# Altium integrated library WE-HCC_rev15a.intlib: 47 symbols
Pins are listed as number, name and electrical type; pins without a type are passive.

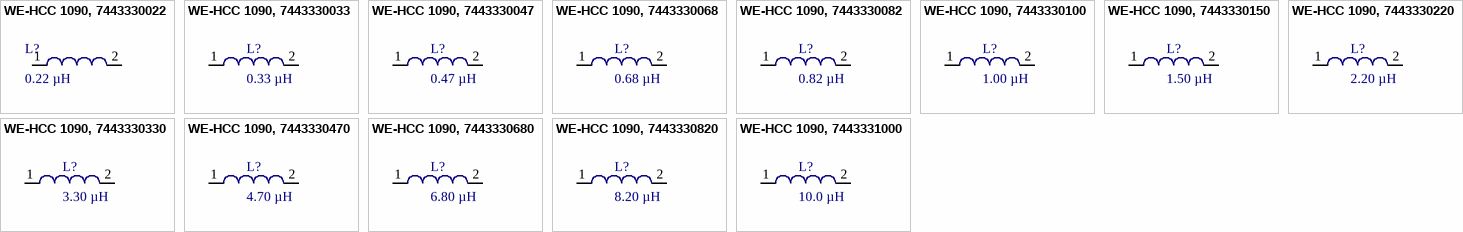
[diagram p0: symbols WE-HCC 1090, 7443330022 to WE-HCC 1090, 7443331000]

## WE-HCC 1090, 7443330022
designator L?, comment 0.22 µH
SMD High Current Cube Inductor WE-HCC, L=0.22 µH; partNo: 7443330022; Manufacturer: Würth Elektronik eiSos GmbH; Inductance: 0.22 µH; ComponentLink1Description: Manufacturer; ComponentLink1URL: http://www.we-online.de; Created by: Christin Zierenner; Created Date: August 2010; ComponentLink2Description: Datasheet; ComponentLink2URL: http://katalog.we-online.de/kataloge/eisos/media/pdf/7443330022.pdf
footprint WE-HCC 1090 (Inductor, 2-Leads, Body 10,9x10,0mm)
pins: 1, 2

## WE-HCC 1090, 7443330033
designator L?, comment 0.33 µH
SMD High Current Cube Inductor WE-HCC, L=0.33 µH; partNo: 7443330033; Manufacturer: Würth Elektronik eiSos GmbH; Inductance: 0.33 µH; ComponentLink1Description: Manufacturer; ComponentLink1URL: http://www.we-online.de; Created by: Christin Zierenner; Created Date: August 2010; ComponentLink2Description: Datasheet; ComponentLink2URL: http://katalog.we-online.de/kataloge/eisos/media/pdf/7443330033.pdf
footprint WE-HCC 1090 (Inductor, 2-Leads, Body 10,9x10,0mm)
pins: 1, 2

## WE-HCC 1090, 7443330047
designator L?, comment 0.47 µH
SMD High Current Cube Inductor WE-HCC, L=0.47 µH; partNo: 7443330047; Manufacturer: Würth Elektronik eiSos GmbH; Inductance: 0.47 µH; ComponentLink1Description: Manufacturer; ComponentLink1URL: http://www.we-online.de; Created by: Christin Zierenner; Created Date: August 2010; ComponentLink2Description: Datasheet; ComponentLink2URL: http://katalog.we-online.de/kataloge/eisos/media/pdf/7443330047.pdf
footprint WE-HCC 1090 (Inductor, 2-Leads, Body 10,9x10,0mm)
pins: 1, 2

## WE-HCC 1090, 7443330068
designator L?, comment 0.68 µH
SMD High Current Cube Inductor WE-HCC, L=0.68 µH; partNo: 7443330068; Manufacturer: Würth Elektronik eiSos GmbH; Inductance: 0.68 µH; ComponentLink1Description: Manufacturer; ComponentLink1URL: http://www.we-online.de; Created by: Christin Zierenner; Created Date: August 2010; ComponentLink2Description: Datasheet; ComponentLink2URL: http://katalog.we-online.de/kataloge/eisos/media/pdf/7443330068.pdf
footprint WE-HCC 1090 (Inductor, 2-Leads, Body 10,9x10,0mm)
pins: 1, 2

## WE-HCC 1090, 7443330082
designator L?, comment 0.82 µH
SMD High Current Cube Inductor WE-HCC, L=0.82 µH; partNo: 7443330082; Manufacturer: Würth Elektronik eiSos GmbH; Inductance: 0.82 µH; ComponentLink1Description: Manufacturer; ComponentLink1URL: http://www.we-online.de; Created by: Christin Zierenner; Created Date: August 2010; ComponentLink2Description: Datasheet; ComponentLink2URL: http://katalog.we-online.de/kataloge/eisos/media/pdf/7443330082.pdf
footprint WE-HCC 1090 (Inductor, 2-Leads, Body 10,9x10,0mm)
pins: 1, 2

## WE-HCC 1090, 7443330100
designator L?, comment 1.00 µH
SMD High Current Cube Inductor WE-HCC, L=1.00 µH; partNo: 7443330100; Manufacturer: Würth Elektronik eiSos GmbH; Inductance: 1.00 µH; ComponentLink1Description: Manufacturer; ComponentLink1URL: http://www.we-online.de; Created by: Christin Zierenner; Created Date: August 2010; ComponentLink2Description: Datasheet; ComponentLink2URL: http://katalog.we-online.de/kataloge/eisos/media/pdf/7443330100.pdf
footprint WE-HCC 1090 (Inductor, 2-Leads, Body 10,9x10,0mm)
pins: 1, 2

## WE-HCC 1090, 7443330150
designator L?, comment 1.50 µH
SMD High Current Cube Inductor WE-HCC, L=1.50 µH; partNo: 7443330150; Manufacturer: Würth Elektronik eiSos GmbH; Inductance: 1.50 µH; ComponentLink1Description: Manufacturer; ComponentLink1URL: http://www.we-online.de; Created by: Christin Zierenner; Created Date: August 2010; ComponentLink2Description: Datasheet; ComponentLink2URL: http://katalog.we-online.de/kataloge/eisos/media/pdf/7443330150.pdf
footprint WE-HCC 1090 (Inductor, 2-Leads, Body 10,9x10,0mm)
pins: 1, 2

## WE-HCC 1090, 7443330220
designator L?, comment 2.20 µH
SMD High Current Cube Inductor WE-HCC, L=2.20 µH; partNo: 7443330220; Manufacturer: Würth Elektronik eiSos GmbH; Inductance: 2.20 µH; ComponentLink1Description: Manufacturer; ComponentLink1URL: http://www.we-online.de; Created by: Christin Zierenner; Created Date: August 2010; ComponentLink2Description: Datasheet; ComponentLink2URL: http://katalog.we-online.de/kataloge/eisos/media/pdf/7443330220.pdf
footprint WE-HCC 1090 (Inductor, 2-Leads, Body 10,9x10,0mm)
pins: 1, 2

## WE-HCC 1090, 7443330330
designator L?, comment 3.30 µH
SMD High Current Cube Inductor WE-HCC, L=3.30 µH; partNo: 7443330330; Manufacturer: Würth Elektronik eiSos GmbH; Inductance: 3.30 µH; ComponentLink1Description: Manufacturer; ComponentLink1URL: http://www.we-online.de; Created by: Christin Zierenner; Created Date: August 2010; ComponentLink2Description: Datasheet; ComponentLink2URL: http://katalog.we-online.de/kataloge/eisos/media/pdf/7443330330.pdf
footprint WE-HCC 1090 (Inductor, 2-Leads, Body 10,9x10,0mm)
pins: 1, 2

## WE-HCC 1090, 7443330470
designator L?, comment 4.70 µH
SMD High Current Cube Inductor WE-HCC, L=4.70 µH; partNo: 7443330470; Manufacturer: Würth Elektronik eiSos GmbH; Inductance: 4.70 µH; ComponentLink1Description: Manufacturer; ComponentLink1URL: http://www.we-online.de; Created by: Christin Zierenner; Created Date: August 2010; ComponentLink2Description: Datasheet; ComponentLink2URL: http://katalog.we-online.de/kataloge/eisos/media/pdf/7443330470.pdf
footprint WE-HCC 1090 (Inductor, 2-Leads, Body 10,9x10,0mm)
pins: 1, 2

## WE-HCC 1090, 7443330680
designator L?, comment 6.80 µH
SMD High Current Cube Inductor WE-HCC, L=6.80 µH; partNo: 7443330680; Manufacturer: Würth Elektronik eiSos GmbH; Inductance: 6.80 µH; ComponentLink1Description: Manufacturer; ComponentLink1URL: http://www.we-online.de; Created by: Christin Zierenner; Created Date: August 2010; ComponentLink2Description: Datasheet; ComponentLink2URL: http://katalog.we-online.de/kataloge/eisos/media/pdf/7443330680.pdf
footprint WE-HCC 1090 (Inductor, 2-Leads, Body 10,9x10,0mm)
pins: 1, 2

## WE-HCC 1090, 7443330820
designator L?, comment 8.20 µH
SMD High Current Cube Inductor WE-HCC, L=8.20 µH; partNo: 7443330820; Manufacturer: Würth Elektronik eiSos GmbH; Inductance: 8.20 µH; ComponentLink1Description: Manufacturer; ComponentLink1URL: http://www.we-online.de; Created by: Christin Zierenner; Created Date: August 2010; ComponentLink2Description: Datasheet; ComponentLink2URL: http://katalog.we-online.de/kataloge/eisos/media/pdf/7443330820.pdf
footprint WE-HCC 1090 (Inductor, 2-Leads, Body 10,9x10,0mm)
pins: 1, 2

## WE-HCC 1090, 7443331000
designator L?, comment 10.0 µH
SMD High Current Cube Inductor WE-HCC, L=10.0 µH; partNo: 7443331000; Manufacturer: Würth Elektronik eiSos GmbH; Inductance: 10.0 µH; ComponentLink1Description: Manufacturer; ComponentLink1URL: http://www.we-online.de; Created by: Christin Zierenner; Created Date: August 2010; ComponentLink2Description: Datasheet; ComponentLink2URL: http://katalog.we-online.de/kataloge/eisos/media/pdf/7443331000.pdf
footprint WE-HCC 1090 (Inductor, 2-Leads, Body 10,9x10,0mm)
pins: 1, 2


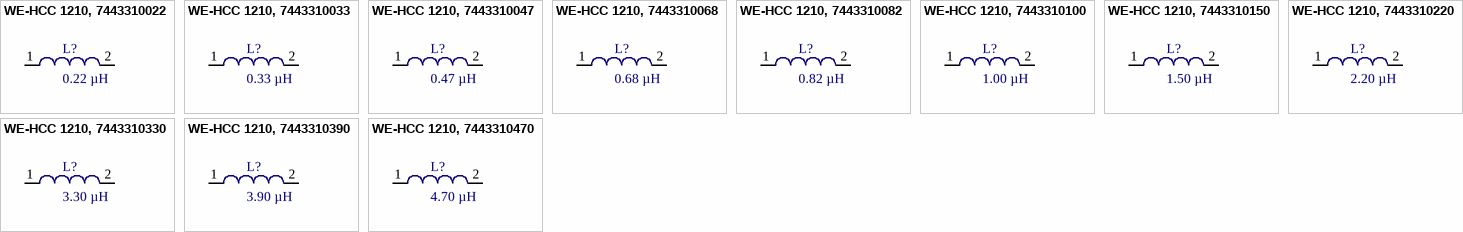
[diagram p1: symbols WE-HCC 1210, 7443310022 to WE-HCC 1210, 7443310470]

## WE-HCC 1210, 7443310022
designator L?, comment 0.22 µH
SMD High Current Cube Inductor WE-HCC, L=0.22 µH; partNo: 7443310022; Manufacturer: Würth Elektronik eiSos GmbH; Inductance: 0.22 µH; ComponentLink1Description: Manufacturer; ComponentLink1URL: http://www.we-online.de; Created by: Christin Zierenner; Created Date: August 2010; ComponentLink2URL: http://katalog.we-online.de/kataloge/eisos/media/pdf/7443310022.pdf; ComponentLink2Description: Datasheet
footprint WE-HCC 1210 (Inductor, 2-Leads, Body 12,1x11,4mm)
pins: 1, 2

## WE-HCC 1210, 7443310033
designator L?, comment 0.33 µH
SMD High Current Cube Inductor WE-HCC, L=0.33 µH; partNo: 7443310033; Manufacturer: Würth Elektronik eiSos GmbH; Inductance: 0.33 µH; ComponentLink1Description: Manufacturer; ComponentLink1URL: http://www.we-online.de; Created by: Christin Zierenner; Created Date: August 2010; ComponentLink2Description: Datasheet; ComponentLink2URL: http://katalog.we-online.de/kataloge/eisos/media/pdf/7443310033.pdf
footprint WE-HCC 1210 (Inductor, 2-Leads, Body 12,1x11,4mm)
pins: 1, 2

## WE-HCC 1210, 7443310047
designator L?, comment 0.47 µH
SMD High Current Cube Inductor WE-HCC, L=0.47 µH; partNo: 7443310047; Manufacturer: Würth Elektronik eiSos GmbH; Inductance: 0.47 µH; ComponentLink1Description: Manufacturer; ComponentLink1URL: http://www.we-online.de; Created by: Christin Zierenner; Created Date: August 2010; ComponentLink2Description: Datasheet; ComponentLink2URL: http://katalog.we-online.de/kataloge/eisos/media/pdf/7443310047.pdf
footprint WE-HCC 1210 (Inductor, 2-Leads, Body 12,1x11,4mm)
pins: 1, 2

## WE-HCC 1210, 7443310068
designator L?, comment 0.68 µH
SMD High Current Cube Inductor WE-HCC, L=0.68 µH; partNo: 7443310068; Manufacturer: Würth Elektronik eiSos GmbH; Inductance: 0.68 µH; ComponentLink1Description: Manufacturer; ComponentLink1URL: http://www.we-online.de; Created by: Christin Zierenner; Created Date: August 2010; ComponentLink2Description: Datasheet; ComponentLink2URL: http://katalog.we-online.de/kataloge/eisos/media/pdf/7443310068.pdf
footprint WE-HCC 1210 (Inductor, 2-Leads, Body 12,1x11,4mm)
pins: 1, 2

## WE-HCC 1210, 7443310082
designator L?, comment 0.82 µH
SMD High Current Cube Inductor WE-HCC, L=0.82 µH; partNo: 7443310082; Manufacturer: Würth Elektronik eiSos GmbH; Inductance: 0.82 µH; ComponentLink1Description: Manufacturer; ComponentLink1URL: http://www.we-online.de; Created by: Christin Zierenner; Created Date: August 2010; ComponentLink2Description: Datasheet; ComponentLink2URL: http://katalog.we-online.de/kataloge/eisos/media/pdf/7443310082.pdf
footprint WE-HCC 1210 (Inductor, 2-Leads, Body 12,1x11,4mm)
pins: 1, 2

## WE-HCC 1210, 7443310100
designator L?, comment 1.00 µH
SMD High Current Cube Inductor WE-HCC, L=1.00 µH; partNo: 7443310100; Manufacturer: Würth Elektronik eiSos GmbH; Inductance: 1.00 µH; ComponentLink1Description: Manufacturer; ComponentLink1URL: http://www.we-online.de; Created by: Christin Zierenner; Created Date: August 2010; ComponentLink2Description: Datasheet; ComponentLink2URL: http://katalog.we-online.de/kataloge/eisos/media/pdf/7443310100.pdf
footprint WE-HCC 1210 (Inductor, 2-Leads, Body 12,1x11,4mm)
pins: 1, 2

## WE-HCC 1210, 7443310150
designator L?, comment 1.50 µH
SMD High Current Cube Inductor WE-HCC, L=1.50 µH; partNo: 7443310150; Manufacturer: Würth Elektronik eiSos GmbH; Inductance: 1.50 µH; ComponentLink1Description: Manufacturer; ComponentLink1URL: http://www.we-online.de; Created by: Christin Zierenner; Created Date: August 2010; ComponentLink2Description: Datasheet; ComponentLink2URL: http://katalog.we-online.de/kataloge/eisos/media/pdf/7443310150.pdf
footprint WE-HCC 1210 (Inductor, 2-Leads, Body 12,1x11,4mm)
pins: 1, 2

## WE-HCC 1210, 7443310220
designator L?, comment 2.20 µH
SMD High Current Cube Inductor WE-HCC, L=2.20 µH; partNo: 7443310220; Manufacturer: Würth Elektronik eiSos GmbH; Inductance: 2.20 µH; ComponentLink1Description: Manufacturer; ComponentLink1URL: http://www.we-online.de; Created by: Christin Zierenner; Created Date: August 2010; ComponentLink2Description: Datasheet; ComponentLink2URL: http://katalog.we-online.de/kataloge/eisos/media/pdf/7443310220.pdf
footprint WE-HCC 1210 (Inductor, 2-Leads, Body 12,1x11,4mm)
pins: 1, 2

## WE-HCC 1210, 7443310330
designator L?, comment 3.30 µH
SMD High Current Cube Inductor WE-HCC, L=3.30 µH; partNo: 7443310330; Manufacturer: Würth Elektronik eiSos GmbH; Inductance: 3.30 µH; ComponentLink1Description: Manufacturer; ComponentLink1URL: http://www.we-online.de; Created by: Christin Zierenner; Created Date: August 2010; ComponentLink2Description: Datasheet; ComponentLink2URL: http://katalog.we-online.de/kataloge/eisos/media/pdf/7443310330.pdf
footprint WE-HCC 1210 (Inductor, 2-Leads, Body 12,1x11,4mm)
pins: 1, 2

## WE-HCC 1210, 7443310390
designator L?, comment 3.90 µH
SMD High Current Cube Inductor WE-HCC, L=3.90 µH; partNo: 7443310390; Manufacturer: Würth Elektronik eiSos GmbH; Inductance: 3.90 µH; ComponentLink1Description: Manufacturer; ComponentLink1URL: http://www.we-online.de; Created by: Christin Zierenner; Created Date: August 2010; ComponentLink2Description: Datasheet; ComponentLink2URL: http://katalog.we-online.de/kataloge/eisos/media/pdf/7443310390.pdf
footprint WE-HCC 1210 (Inductor, 2-Leads, Body 12,1x11,4mm)
pins: 1, 2

## WE-HCC 1210, 7443310470
designator L?, comment 4.70 µH
SMD High Current Cube Inductor WE-HCC, L=4.70 µH; partNo: 7443310470; Manufacturer: Würth Elektronik eiSos GmbH; Inductance: 4.70 µH; ComponentLink1Description: Manufacturer; ComponentLink1URL: http://www.we-online.de; Created by: Christin Zierenner; Created Date: August 2010; ComponentLink2Description: Datasheet; ComponentLink2URL: http://katalog.we-online.de/kataloge/eisos/media/pdf/7443310470.pdf
footprint WE-HCC 1210 (Inductor, 2-Leads, Body 12,1x11,4mm)
pins: 1, 2


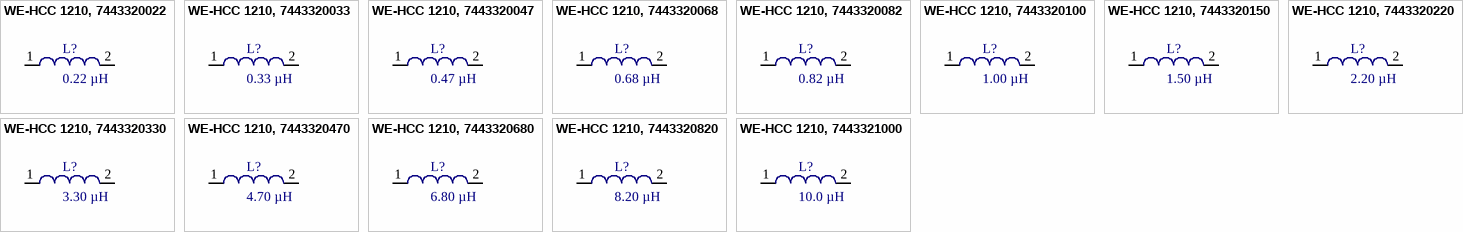
[diagram p2: symbols WE-HCC 1210, 7443320022 to WE-HCC 1210, 7443321000]

## WE-HCC 1210, 7443320022
designator L?, comment 0.22 µH
SMD High Current Cube Inductor WE-HCC, L=0.22 µH; partNo: 7443320022; Manufacturer: Würth Elektronik eiSos GmbH; Inductance: 0.22 µH; ComponentLink1Description: Manufacturer; ComponentLink1URL: http://www.we-online.de; Created by: Christin Zierenner; Created Date: August 2010; ComponentLink2URL: http://katalog.we-online.de/kataloge/eisos/media/pdf/7443320022.pdf; ComponentLink2Description: Datasheet
footprint WE-HCC 1210 (Inductor, 2-Leads, Body 12,1x11,4mm)
pins: 1, 2

## WE-HCC 1210, 7443320033
designator L?, comment 0.33 µH
SMD High Current Cube Inductor WE-HCC, L=0.33 µH; partNo: 7443320033; Manufacturer: Würth Elektronik eiSos GmbH; Inductance: 0.33 µH; ComponentLink1Description: Manufacturer; ComponentLink1URL: http://www.we-online.de; Created by: Christin Zierenner; Created Date: August 2010; ComponentLink2Description: Datasheet; ComponentLink2URL: http://katalog.we-online.de/kataloge/eisos/media/pdf/7443320033.pdf
footprint WE-HCC 1210 (Inductor, 2-Leads, Body 12,1x11,4mm)
pins: 1, 2

## WE-HCC 1210, 7443320047
designator L?, comment 0.47 µH
SMD High Current Cube Inductor WE-HCC, L=0.47 µH; partNo: 7443320047; Manufacturer: Würth Elektronik eiSos GmbH; Inductance: 0.47 µH; ComponentLink1Description: Manufacturer; ComponentLink1URL: http://www.we-online.de; Created by: Christin Zierenner; Created Date: August 2010; ComponentLink2Description: Datasheet; ComponentLink2URL: http://katalog.we-online.de/kataloge/eisos/media/pdf/7443320047.pdf
footprint WE-HCC 1210 (Inductor, 2-Leads, Body 12,1x11,4mm)
pins: 1, 2

## WE-HCC 1210, 7443320068
designator L?, comment 0.68 µH
SMD High Current Cube Inductor WE-HCC, L=0.68 µH; partNo: 7443320068; Manufacturer: Würth Elektronik eiSos GmbH; Inductance: 0.68 µH; ComponentLink1Description: Manufacturer; ComponentLink1URL: http://www.we-online.de; Created by: Christin Zierenner; Created Date: August 2010; ComponentLink2Description: Datasheet; ComponentLink2URL: http://katalog.we-online.de/kataloge/eisos/media/pdf/7443320068.pdf
footprint WE-HCC 1210 (Inductor, 2-Leads, Body 12,1x11,4mm)
pins: 1, 2

## WE-HCC 1210, 7443320082
designator L?, comment 0.82 µH
SMD High Current Cube Inductor WE-HCC, L=0.82 µH; partNo: 7443320082; Manufacturer: Würth Elektronik eiSos GmbH; Inductance: 0.82 µH; ComponentLink1Description: Manufacturer; ComponentLink1URL: http://www.we-online.de; Created by: Christin Zierenner; Created Date: August 2010; ComponentLink2Description: Datasheet; ComponentLink2URL: http://katalog.we-online.de/kataloge/eisos/media/pdf/7443320082.pdf
footprint WE-HCC 1210 (Inductor, 2-Leads, Body 12,1x11,4mm)
pins: 1, 2

## WE-HCC 1210, 7443320100
designator L?, comment 1.00 µH
SMD High Current Cube Inductor WE-HCC, L=1.00 µH; partNo: 7443320100; Manufacturer: Würth Elektronik eiSos GmbH; Inductance: 1.00 µH; ComponentLink1Description: Manufacturer; ComponentLink1URL: http://www.we-online.de; Created by: Christin Zierenner; Created Date: August 2010; ComponentLink2Description: Datasheet; ComponentLink2URL: http://katalog.we-online.de/kataloge/eisos/media/pdf/7443320100.pdf
footprint WE-HCC 1210 (Inductor, 2-Leads, Body 12,1x11,4mm)
pins: 1, 2

## WE-HCC 1210, 7443320150
designator L?, comment 1.50 µH
SMD High Current Cube Inductor WE-HCC, L=1.50 µH; partNo: 7443320150; Manufacturer: Würth Elektronik eiSos GmbH; Inductance: 1.50 µH; ComponentLink1Description: Manufacturer; ComponentLink1URL: http://www.we-online.de; Created by: Christin Zierenner; Created Date: August 2010; ComponentLink2Description: Datasheet; ComponentLink2URL: http://katalog.we-online.de/kataloge/eisos/media/pdf/7443320150.pdf
footprint WE-HCC 1210 (Inductor, 2-Leads, Body 12,1x11,4mm)
pins: 1, 2

## WE-HCC 1210, 7443320220
designator L?, comment 2.20 µH
SMD High Current Cube Inductor WE-HCC, L=2.20 µH; partNo: 7443320220; Manufacturer: Würth Elektronik eiSos GmbH; Inductance: 2.20 µH; ComponentLink1Description: Manufacturer; ComponentLink1URL: http://www.we-online.de; Created by: Christin Zierenner; Created Date: August 2010; ComponentLink2Description: Datasheet; ComponentLink2URL: http://katalog.we-online.de/kataloge/eisos/media/pdf/7443320220.pdf
footprint WE-HCC 1210 (Inductor, 2-Leads, Body 12,1x11,4mm)
pins: 1, 2

## WE-HCC 1210, 7443320330
designator L?, comment 3.30 µH
SMD High Current Cube Inductor WE-HCC, L=3.30 µH; partNo: 7443320330; Manufacturer: Würth Elektronik eiSos GmbH; Inductance: 3.30 µH; ComponentLink1Description: Manufacturer; ComponentLink1URL: http://www.we-online.de; Created by: Christin Zierenner; Created Date: August 2010; ComponentLink2Description: Datasheet; ComponentLink2URL: http://katalog.we-online.de/kataloge/eisos/media/pdf/7443320330.pdf
footprint WE-HCC 1210 (Inductor, 2-Leads, Body 12,1x11,4mm)
pins: 1, 2

## WE-HCC 1210, 7443320470
designator L?, comment 4.70 µH
SMD High Current Cube Inductor WE-HCC, L=4.70 µH; partNo: 7443320470; Manufacturer: Würth Elektronik eiSos GmbH; Inductance: 4.70 µH; ComponentLink1Description: Manufacturer; ComponentLink1URL: http://www.we-online.de; Created by: Christin Zierenner; Created Date: August 2010; ComponentLink2Description: Datasheet; ComponentLink2URL: http://katalog.we-online.de/kataloge/eisos/media/pdf/7443320470.pdf
footprint WE-HCC 1210 (Inductor, 2-Leads, Body 12,1x11,4mm)
pins: 1, 2

## WE-HCC 1210, 7443320680
designator L?, comment 6.80 µH
SMD High Current Cube Inductor WE-HCC, L=6.80 µH; partNo: 7443320680; Manufacturer: Würth Elektronik eiSos GmbH; Inductance: 6.80 µH; ComponentLink1Description: Manufacturer; ComponentLink1URL: http://www.we-online.de; Created by: Christin Zierenner; Created Date: August 2010; ComponentLink2Description: Datasheet; ComponentLink2URL: http://katalog.we-online.de/kataloge/eisos/media/pdf/7443320680.pdf
footprint WE-HCC 1210 (Inductor, 2-Leads, Body 12,1x11,4mm)
pins: 1, 2

## WE-HCC 1210, 7443320820
designator L?, comment 8.20 µH
SMD High Current Cube Inductor WE-HCC, L=8.20 µH; partNo: 7443320820; Manufacturer: Würth Elektronik eiSos GmbH; Inductance: 8.20 µH; ComponentLink1Description: Manufacturer; ComponentLink1URL: http://www.we-online.de; Created by: Christin Zierenner; Created Date: August 2010; ComponentLink2Description: Datasheet; ComponentLink2URL: http://katalog.we-online.de/kataloge/eisos/media/pdf/7443320820.pdf
footprint WE-HCC 1210 (Inductor, 2-Leads, Body 12,1x11,4mm)
pins: 1, 2

## WE-HCC 1210, 7443321000
designator L?, comment 10.0 µH
SMD High Current Cube Inductor WE-HCC, L=10.0 µH; partNo: 7443321000; Manufacturer: Würth Elektronik eiSos GmbH; Inductance: 10.0 µH; ComponentLink1Description: Manufacturer; ComponentLink1URL: http://www.we-online.de; Created by: Christin Zierenner; Created Date: August 2010; ComponentLink2Description: Datasheet; ComponentLink2URL: http://katalog.we-online.de/kataloge/eisos/media/pdf/7443321000.pdf
footprint WE-HCC 1210 (Inductor, 2-Leads, Body 12,1x11,4mm)
pins: 1, 2


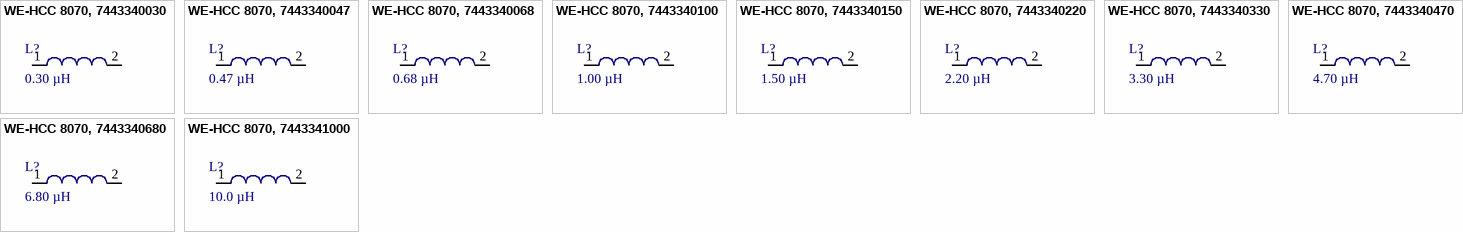
[diagram p3: symbols WE-HCC 8070, 7443340030 to WE-HCC 8070, 7443341000]

## WE-HCC 8070, 7443340030
designator L?, comment 0.30 µH
SMD High Current Cube Inductor WE-HCC, L=0.30 µH; partNo: 7443340030; Manufacturer: Würth Elektronik eiSos GmbH; Inductance: 0.30 µH; ComponentLink1Description: Manufacturer; ComponentLink1URL: http://www.we-online.de; Created by: Christin Zierenner; Created Date: August 2010; ComponentLink2Description: Datasheet; ComponentLink2URL: http://katalog.we-online.de/kataloge/eisos/media/pdf/7443340030.pdf
footprint WE-HCC 8070 (Inductor, 2-Leads, Body 8,4x7,9mm)
pins: 1, 2

## WE-HCC 8070, 7443340047
designator L?, comment 0.47 µH
SMD High Current Cube Inductor WE-HCC, L=0.47 µH; partNo: 7443340047; Manufacturer: Würth Elektronik eiSos GmbH; Inductance: 0.47 µH; ComponentLink1Description: Manufacturer; ComponentLink1URL: http://www.we-online.de; Created by: Christin Zierenner; Created Date: November 2009; ComponentLink2Description: Datasheet; ComponentLink2URL: http://katalog.we-online.de/kataloge/eisos/media/pdf/7443340047.pdf
footprint WE-HCC 8070 (Inductor, 2-Leads, Body 8,4x7,9mm)
pins: 1, 2

## WE-HCC 8070, 7443340068
designator L?, comment 0.68 µH
SMD High Current Cube Inductor WE-HCC, L=0.68 µH; partNo: 7443340068; Manufacturer: Würth Elektronik eiSos GmbH; Inductance: 0.68 µH; ComponentLink1Description: Manufacturer; ComponentLink1URL: http://www.we-online.de; Created by: Christin Zierenner; Created Date: November 2009; ComponentLink2Description: Datasheet; ComponentLink2URL: http://katalog.we-online.de/kataloge/eisos/media/pdf/7443340068.pdf
footprint WE-HCC 8070 (Inductor, 2-Leads, Body 8,4x7,9mm)
pins: 1, 2

## WE-HCC 8070, 7443340100
designator L?, comment 1.00 µH
SMD High Current Cube Inductor WE-HCC, L=1.00 µH; partNo: 7443340100; Manufacturer: Würth Elektronik eiSos GmbH; Inductance: 1.00 µH; ComponentLink1Description: Manufacturer; ComponentLink1URL: http://www.we-online.de; Created by: Christin Zierenner; Created Date: November 2009; ComponentLink2Description: Datasheet; ComponentLink2URL: http://katalog.we-online.de/kataloge/eisos/media/pdf/7443340100.pdf
footprint WE-HCC 8070 (Inductor, 2-Leads, Body 8,4x7,9mm)
pins: 1, 2

## WE-HCC 8070, 7443340150
designator L?, comment 1.50 µH
SMD High Current Cube Inductor WE-HCC, L=1.50 µH; partNo: 7443340150; Manufacturer: Würth Elektronik eiSos GmbH; Inductance: 1.50 µH; ComponentLink1Description: Manufacturer; ComponentLink1URL: http://www.we-online.de; Created by: Christin Zierenner; Created Date: November 2009; ComponentLink2Description: Datasheet; ComponentLink2URL: http://katalog.we-online.de/kataloge/eisos/media/pdf/7443340150.pdf
footprint WE-HCC 8070 (Inductor, 2-Leads, Body 8,4x7,9mm)
pins: 1, 2

## WE-HCC 8070, 7443340220
designator L?, comment 2.20 µH
SMD High Current Cube Inductor WE-HCC, L=2.20 µH; partNo: 7443340220; Manufacturer: Würth Elektronik eiSos GmbH; Inductance: 2.20 µH; ComponentLink1Description: Manufacturer; ComponentLink1URL: http://www.we-online.de; Created by: Christin Zierenner; Created Date: November 2009; ComponentLink2Description: Datasheet; ComponentLink2URL: http://katalog.we-online.de/kataloge/eisos/media/pdf/7443340220.pdf
footprint WE-HCC 8070 (Inductor, 2-Leads, Body 8,4x7,9mm)
pins: 1, 2

## WE-HCC 8070, 7443340330
designator L?, comment 3.30 µH
SMD High Current Cube Inductor WE-HCC, L=3.30 µH; partNo: 7443340330; Manufacturer: Würth Elektronik eiSos GmbH; Inductance: 3.30 µH; ComponentLink1Description: Manufacturer; ComponentLink1URL: http://www.we-online.de; Created by: Christin Zierenner; Created Date: November 2009; ComponentLink2Description: Datasheet; ComponentLink2URL: http://katalog.we-online.de/kataloge/eisos/media/pdf/7443340330.pdf
footprint WE-HCC 8070 (Inductor, 2-Leads, Body 8,4x7,9mm)
pins: 1, 2

## WE-HCC 8070, 7443340470
designator L?, comment 4.70 µH
SMD High Current Cube Inductor WE-HCC, L=4.70 µH; partNo: 7443340470; Manufacturer: Würth Elektronik eiSos GmbH; Inductance: 4.70 µH; ComponentLink1Description: Manufacturer; ComponentLink1URL: http://www.we-online.de; Created by: Christin Otto; Created Date: October 2013; ComponentLink2Description: Datasheet; ComponentLink2URL: http://katalog.we-online.de/kataloge/eisos/media/pdf/7443340470.pdf
footprint WE-HCC 8070 (Inductor, 2-Leads, Body 8,4x7,9mm)
pins: 1, 2

## WE-HCC 8070, 7443340680
designator L?, comment 6.80 µH
SMD High Current Cube Inductor WE-HCC, L=6.80 µH; partNo: 7443340680; Manufacturer: Würth Elektronik eiSos GmbH; Inductance: 6.80 µH; ComponentLink1Description: Manufacturer; ComponentLink1URL: http://www.we-online.de; Created by: Christin Otto; Created Date: October 2013; ComponentLink2Description: Datasheet; ComponentLink2URL: http://katalog.we-online.de/kataloge/eisos/media/pdf/7443340680.pdf
footprint WE-HCC 8070 (Inductor, 2-Leads, Body 8,4x7,9mm)
pins: 1, 2

## WE-HCC 8070, 7443341000
designator L?, comment 10.0 µH
SMD High Current Cube Inductor WE-HCC, L=10.0 µH; partNo: 7443341000; Manufacturer: Würth Elektronik eiSos GmbH; Inductance: 10.0 µH; ComponentLink1Description: Manufacturer; ComponentLink1URL: http://www.we-online.de; Created by: Christin Otto; Created Date: October 2013; ComponentLink2Description: Datasheet; ComponentLink2URL: http://katalog.we-online.de/kataloge/eisos/media/pdf/7443341000.pdf
footprint WE-HCC 8070 (Inductor, 2-Leads, Body 8,4x7,9mm)
pins: 1, 2